# Altium footprint library Fuses.PcbLib: 86 footprints (part 6 of 6)
Each footprint in its own frame and in the unit in brackets; x right, y up, seen from the top. Pads: shape width x height; smd on the part's side, far side on the other; paste and mask are expansions set on the pad; w line width, h text height; cw(c..) or ccw(c..) is an arc to the next point about the centre after c.
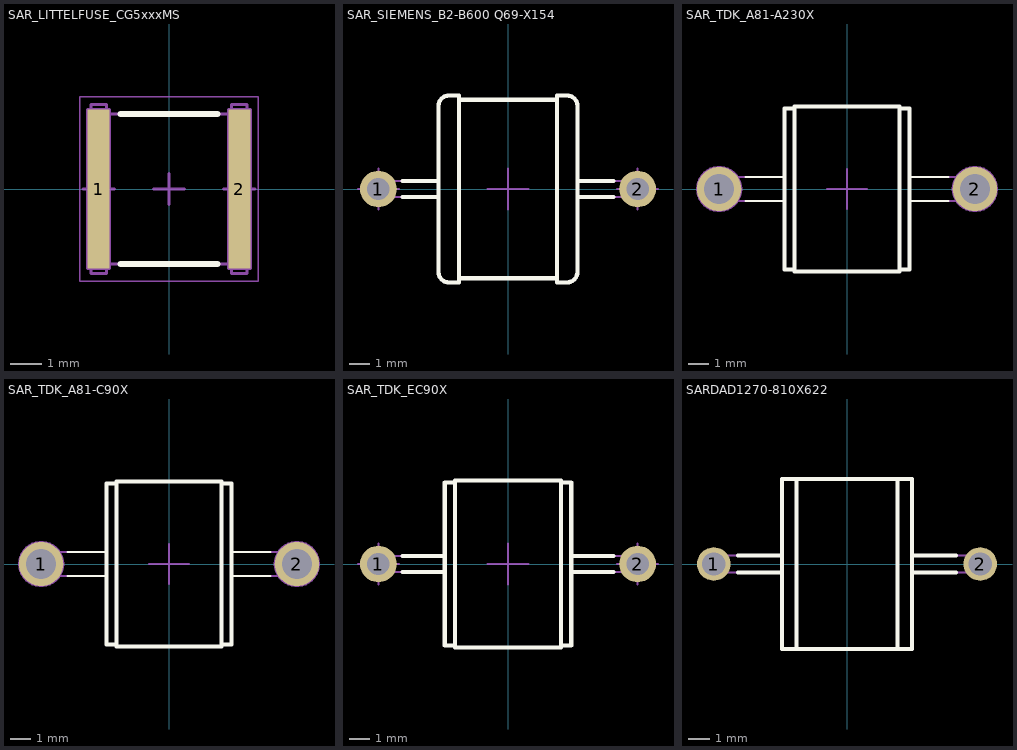
[diagram p5: the footprints below, top view; thin cyan lines are the x and y axes]

## SAR_LITTELFUSE_CG5xxxMS [mm] "2-electrode Gas Discharge Tube Surge Protector Body D5.4mm x L5.0mm"
height 5.55
pads (2):
  rect 0.7x5.1 smd: 1(-2.25,0) 2(2.25,0)
Top Overlay:
  lines w0.2: -1.55,-2.4 1.55,-2.4 ; -1.55,2.4 1.55,2.4
Mechanical 8:
  lines w0.1: -2.75,0 -2.25,0 ; -2.25,-0.5 -2.25,0 ; -2.25,0.5 -2.25,0 ; -1.75,0 -2.25,0 ; -0.5,0 0,0 ; 0,-0.5 0,0 ; 0,0.5 0,0 ; 0.5,0 0,0 ; 1.75,0 2.25,0 ; 2.25,-0.5 2.25,0 ; 2.25,0.5 2.25,0 ; 2.75,0 2.25,0 ; -2.6,-2.55 -1.9,-2.55 -1.9,2.55 -2.6,2.55 -2.6,-2.55 ; 1.9,-2.55 2.6,-2.55 2.6,2.55 1.9,2.55 1.9,-2.55
Mechanical 14:
  lines w0.1: -2,-2.4 2,-2.4 ; -2,2.4 2,2.4 ; -2.5,-2.7 -2.5,2.7 -2,2.7 -2,-2.7 -2.5,-2.7 ; 2,-2.7 2.5,-2.7 2.5,2.7 2,2.7 2,-2.7
Mechanical 15:
  lines w0.05: -2.85,-2.95 -2.85,2.95 2.85,2.95 2.85,-2.95 -2.85,-2.95
3D body "SAR_LITTELFUSE_CG5xxxMS.stp": height 5.4, standoff 0, extent -2.5,-2.7 2.5,2.7

## SAR_SIEMENS_B2-B600 Q69-X154 [mm] "Surge Arrester, Axial Diameter, Leads Spacing 12.7mm, D9.15mm x L 6.5mm"
height 9.15
pads (2):
  round 1.8 hole 1.1: 1(-6.35,0) 2(6.35,0)
Top Overlay:
  lines w0.2: -5.166,-0.4 -3.4,-0.4 ; -5.166,0.4 -3.4,0.4 ; -2.4,-4.375 2.4,-4.375 ; -2.4,4.375 2.4,4.375 ; 3.4,-0.4 5.166,-0.4 ; 3.4,0.4 5.166,0.4 ; -3.4,-4.075 ccw(c-2.9,-4.075) -2.9,-4.575 -2.4,-4.575 -2.4,4.575 -2.9,4.575 ccw(c-2.9,4.075) -3.4,4.075 -3.4,-4.075 ; 2.4,-4.575 2.4,4.575 2.9,4.575 cw(c2.9,4.075) 3.4,4.075 3.4,-4.075 cw(c2.9,-4.075) 2.9,-4.575 2.4,-4.575
Mechanical 8:
  lines w0.1: -7.35,0 -6.35,0 ; -6.35,-1 -6.35,0 ; -6.35,1 -6.35,0 ; -5.35,0 -6.35,0 ; -1,0 0,0 ; 0,-1 0,0 ; 0,1 0,0 ; 1,0 0,0 ; 5.35,0 6.35,0 ; 6.35,-1 6.35,0 ; 6.35,1 6.35,0 ; 7.35,0 6.35,0
Mechanical 14:
  lines w0.1: -3.4,-0.4 -6.35,-0.4 cw(c-6.35,0) -6.35,0.4 -3.4,0.4 ; -2.4,-4.375 2.4,-4.375 ; -2.4,4.375 2.4,4.375 ; 3.4,-0.4 6.35,-0.4 ccw(c6.35,0) 6.35,0.4 3.4,0.4 ; -3.4,-4.075 ccw(c-2.9,-4.075) -2.9,-4.575 -2.4,-4.575 -2.4,4.575 -2.9,4.575 ccw(c-2.9,4.075) -3.4,4.075 -3.4,-4.075 ; 2.4,-4.575 2.4,4.575 2.9,4.575 cw(c2.9,4.075) 3.4,4.075 3.4,-4.075 cw(c2.9,-4.075) 2.9,-4.575 2.4,-4.575
3D body "SAR_SIEMENS_B2-B600 Q69-X154.stp": height 9.15, standoff -3.8, extent -6.75,-4.575 6.75,4.575

## SAR_TDK_A81-A230X [mm] "Surge Arrester,Axial Diameter, Leads Spacing 12.7mm, D8.2mm x L 6.25"
height 8.2
pads (2):
  round 2.2 hole 1.5: 1(-6.35,0) 2(6.35,0)
Top Overlay:
  lines w0.1: -5.03,-0.6 -3.1,-0.6 ; -5.03,0.6 -3.1,0.6 ; 3.1,-0.6 5.03,-0.6 ; 3.1,0.6 5.03,0.6
  lines w0.2: -2.6,-4 -3.1,-4 -3.1,4 -2.6,4 ; 2.6,-4 3.1,-4 3.1,4 2.6,4 ; -2.6,-4.1 2.6,-4.1 2.6,4.1 -2.6,4.1 -2.6,-4.1
Mechanical 8:
  circle w0.1: c-6.35,0 r0.75
  circle w0.1: c-6.35,0 r1.1
  circle w0.1: c6.35,0 r0.75
  circle w0.1: c6.35,0 r1.1
  lines w0.1: -7.35,0 -6.35,0 ; -6.35,-1 -6.35,0 ; -6.35,1 -6.35,0 ; -5.35,0 -6.35,0 ; -1,0 0,0 ; 0,-1 0,0 ; 0,1 0,0 ; 1,0 0,0 ; 5.35,0 6.35,0 ; 6.35,-1 6.35,0 ; 6.35,1 6.35,0 ; 7.35,0 6.35,0
Mechanical 14:
  lines w0.1: -3.1,-0.6 -6.35,-0.6 cw(c-6.35,0) -6.35,0.6 -3.1,0.6 ; -2.6,-4 -3.1,-4 -3.1,4 -2.6,4 ; 2.6,-4 3.1,-4 3.1,4 2.6,4 ; 3.1,-0.6 6.35,-0.6 ccw(c6.35,0) 6.35,0.6 3.1,0.6 ; -2.6,-4.1 2.6,-4.1 2.6,4.1 -2.6,4.1 -2.6,-4.1
3D body "SAR_TDK_A81-A230X.stp": height 8.2, standoff -3.8, extent -6.95,-4.1 6.95,4.1

## SAR_TDK_A81-C90X [mm] "Surge Arrester,Axial Diameter, Leads Spacing 12.7mm, D8.2mm x L 6.25"
height 8.2
pads (2):
  round 2.2 hole 1.5: 1(-6.35,0) 2(6.35,0)
Top Overlay:
  lines w0.1: -5.03,-0.6 -3.1,-0.6 ; -5.03,0.6 -3.1,0.6 ; 3.1,-0.6 5.03,-0.6 ; 3.1,0.6 5.03,0.6
  lines w0.2: -2.6,-4 -3.1,-4 -3.1,4 -2.6,4 ; 2.6,-4 3.1,-4 3.1,4 2.6,4 ; -2.6,-4.1 2.6,-4.1 2.6,4.1 -2.6,4.1 -2.6,-4.1
Mechanical 8:
  circle w0.1: c-6.35,0 r0.75
  circle w0.1: c-6.35,0 r1.1
  circle w0.1: c6.35,0 r0.75
  circle w0.1: c6.35,0 r1.1
  lines w0.1: -7.35,0 -6.35,0 ; -6.35,-1 -6.35,0 ; -6.35,1 -6.35,0 ; -5.35,0 -6.35,0 ; -1,0 0,0 ; 0,-1 0,0 ; 0,1 0,0 ; 1,0 0,0 ; 5.35,0 6.35,0 ; 6.35,-1 6.35,0 ; 6.35,1 6.35,0 ; 7.35,0 6.35,0
Mechanical 14:
  lines w0.1: -3.1,-0.6 -6.35,-0.6 cw(c-6.35,0) -6.35,0.6 -3.1,0.6 ; -2.6,-4 -3.1,-4 -3.1,4 -2.6,4 ; 2.6,-4 3.1,-4 3.1,4 2.6,4 ; 3.1,-0.6 6.35,-0.6 ccw(c6.35,0) 6.35,0.6 3.1,0.6 ; -2.6,-4.1 2.6,-4.1 2.6,4.1 -2.6,4.1 -2.6,-4.1
3D body "SAR_TDK_A81-C90X.stp": height 8.2, standoff -3.8, extent -6.95,-4.1 6.95,4.1

## SAR_TDK_EC90X [mm] "Surge Arrester,Axial Diameter, Leads Spacing 12.7mm, D8.2mm x L 6.25"
height 8.2
pads (2):
  round 1.8 hole 1.1: 1(-6.35,0) 2(6.35,0)
Top Overlay:
  lines w0.2: -5.166,-0.4 -3.1,-0.4 ; -5.166,0.4 -3.1,0.4 ; -2.6,-4 -3.1,-4 -3.1,4 -2.6,4 ; 2.6,-4 3.1,-4 3.1,4 2.6,4 ; 3.1,-0.4 5.166,-0.4 ; 3.1,0.4 5.166,0.4 ; -2.6,-4.1 -2.6,4.1 2.6,4.1 2.6,-4.1 -2.6,-4.1
Mechanical 8:
  lines w0.1: -7.35,0 -6.35,0 ; -6.35,-1 -6.35,0 ; -6.35,1 -6.35,0 ; -5.35,0 -6.35,0 ; -1,0 0,0 ; 0,-1 0,0 ; 0,1 0,0 ; 1,0 0,0 ; 5.35,0 6.35,0 ; 6.35,-1 6.35,0 ; 6.35,1 6.35,0 ; 7.35,0 6.35,0
Mechanical 14:
  lines w0.1: -3.1,-0.4 -6.35,-0.4 cw(c-6.35,0) -6.35,0.4 -3.1,0.4 ; -2.6,-4 -3.1,-4 -3.1,4 -2.6,4 ; 2.6,-4 3.1,-4 3.1,4 2.6,4 ; 3.1,-0.4 6.35,-0.4 ccw(c6.35,0) 6.35,0.4 3.1,0.4 ; -2.6,-4.1 -2.6,4.1 2.6,4.1 2.6,-4.1 -2.6,-4.1
3D body "SAR_TDK_EC90X.stp": height 8.2, standoff -3.8, extent -6.75,-4.1 6.75,4.1

## SARDAD1270-810X622 [mm] "Surge Arrester,Axial Diameter, Leads Spacing 12.7mm, D8.1mm x L 6.22"
height 8.1
pads (2):
  round 1.6 hole 1.1: 1(-6.35,0) 2(6.35,0)
Top Overlay:
  lines w0.2: -5.2,-0.4 -3.1,-0.4 ; -5.2,0.4 -3.1,0.4 ; -2.4,-4.05 -2.4,4.05 ; 2.4,-4.05 2.4,4.05 ; 3.1,-0.4 5.2,-0.4 ; 3.1,0.4 5.2,0.4 ; -3.1,-4.05 3.1,-4.05 3.1,4.05 -3.1,4.05 -3.1,-4.05
Mechanical 14:
  lines w0.1: -3.1,-0.4 -6.35,-0.4 cw(c-6.35,0) -6.35,0.4 -3.1,0.4 ; -2.4,-4.05 -2.4,4.05 ; 2.4,-4.05 2.4,4.05 ; 3.1,-0.4 6.35,-0.4 ccw(c6.35,0) 6.35,0.4 3.1,0.4 ; -3.1,-4.05 3.1,-4.05 3.1,4.05 -3.1,4.05 -3.1,-4.05
3D body "SARDAD1270-810X622.stp": height 8.1, standoff -3.8, extent -6.75,-4.05 6.75,4.05